# Altium schematic symbol library Connectors.SchLib: 1 symbol
Pins are listed as number, name and electrical type; pins without a type are passive.

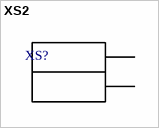
[diagram p0: symbol XS2]

## XS2
designator XS?  (value not drawn)
pins: 2 1, 2